# Altium footprint library smd-3-6-2.5.PcbLib: 1 footprints
Each footprint in its own frame and in the unit in brackets; x right, y up, seen from the top. Pads: shape width x height; smd on the part's side, far side on the other; paste and mask are expansions set on the pad; w line width, h text height; cw(c..) or ccw(c..) is an arc to the next point about the centre after c.
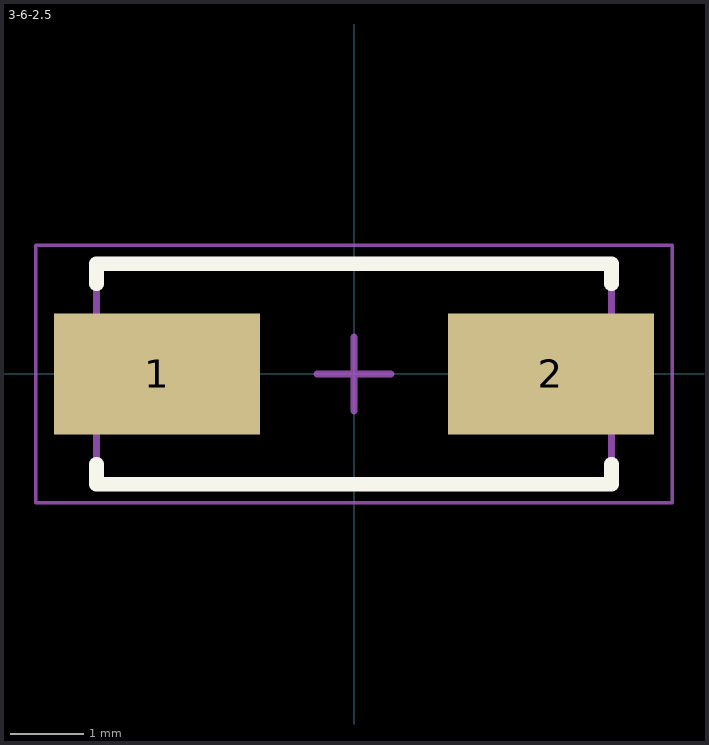
[diagram p0: the footprint, top view; thin cyan lines are the x and y axes]

## 3-6-2.5 [mm] "Molded Capacitor, 2-Leads, Body 7.00x3.00mm, IPC Medium Density"
height 2.5
pads (2):
  rect 2.8x1.65 smd: 1(-2.675,0) 2(2.675,0)
Top Overlay:
  lines w0.2: -3.5,-1.225 -3.5,-1.5 3.5,-1.5 3.5,-1.225 ; -3.5,1.225 -3.5,1.5 3.5,1.5 3.5,1.225
Mechanical 13:
  lines w0.1: -3.5,-1.5 3.5,-1.5 3.5,1.5 -3.5,1.5 -3.5,-1.5
Mechanical 15:
  lines w0.05: -4.325,-1.75 4.325,-1.75 4.325,1.75 -4.325,1.75 -4.325,-1.75
  lines w0.1: -0.5,0 0.5,0 ; 0,-0.5 0,0.5
3D body: height 2.5, standoff 0, extent -3.5,-1.5 3.5,1.5